# Altium integrated library Holtek Semiconductor 8-Bit OTP MCU.IntLib: 195 symbols (part 6 of 7)
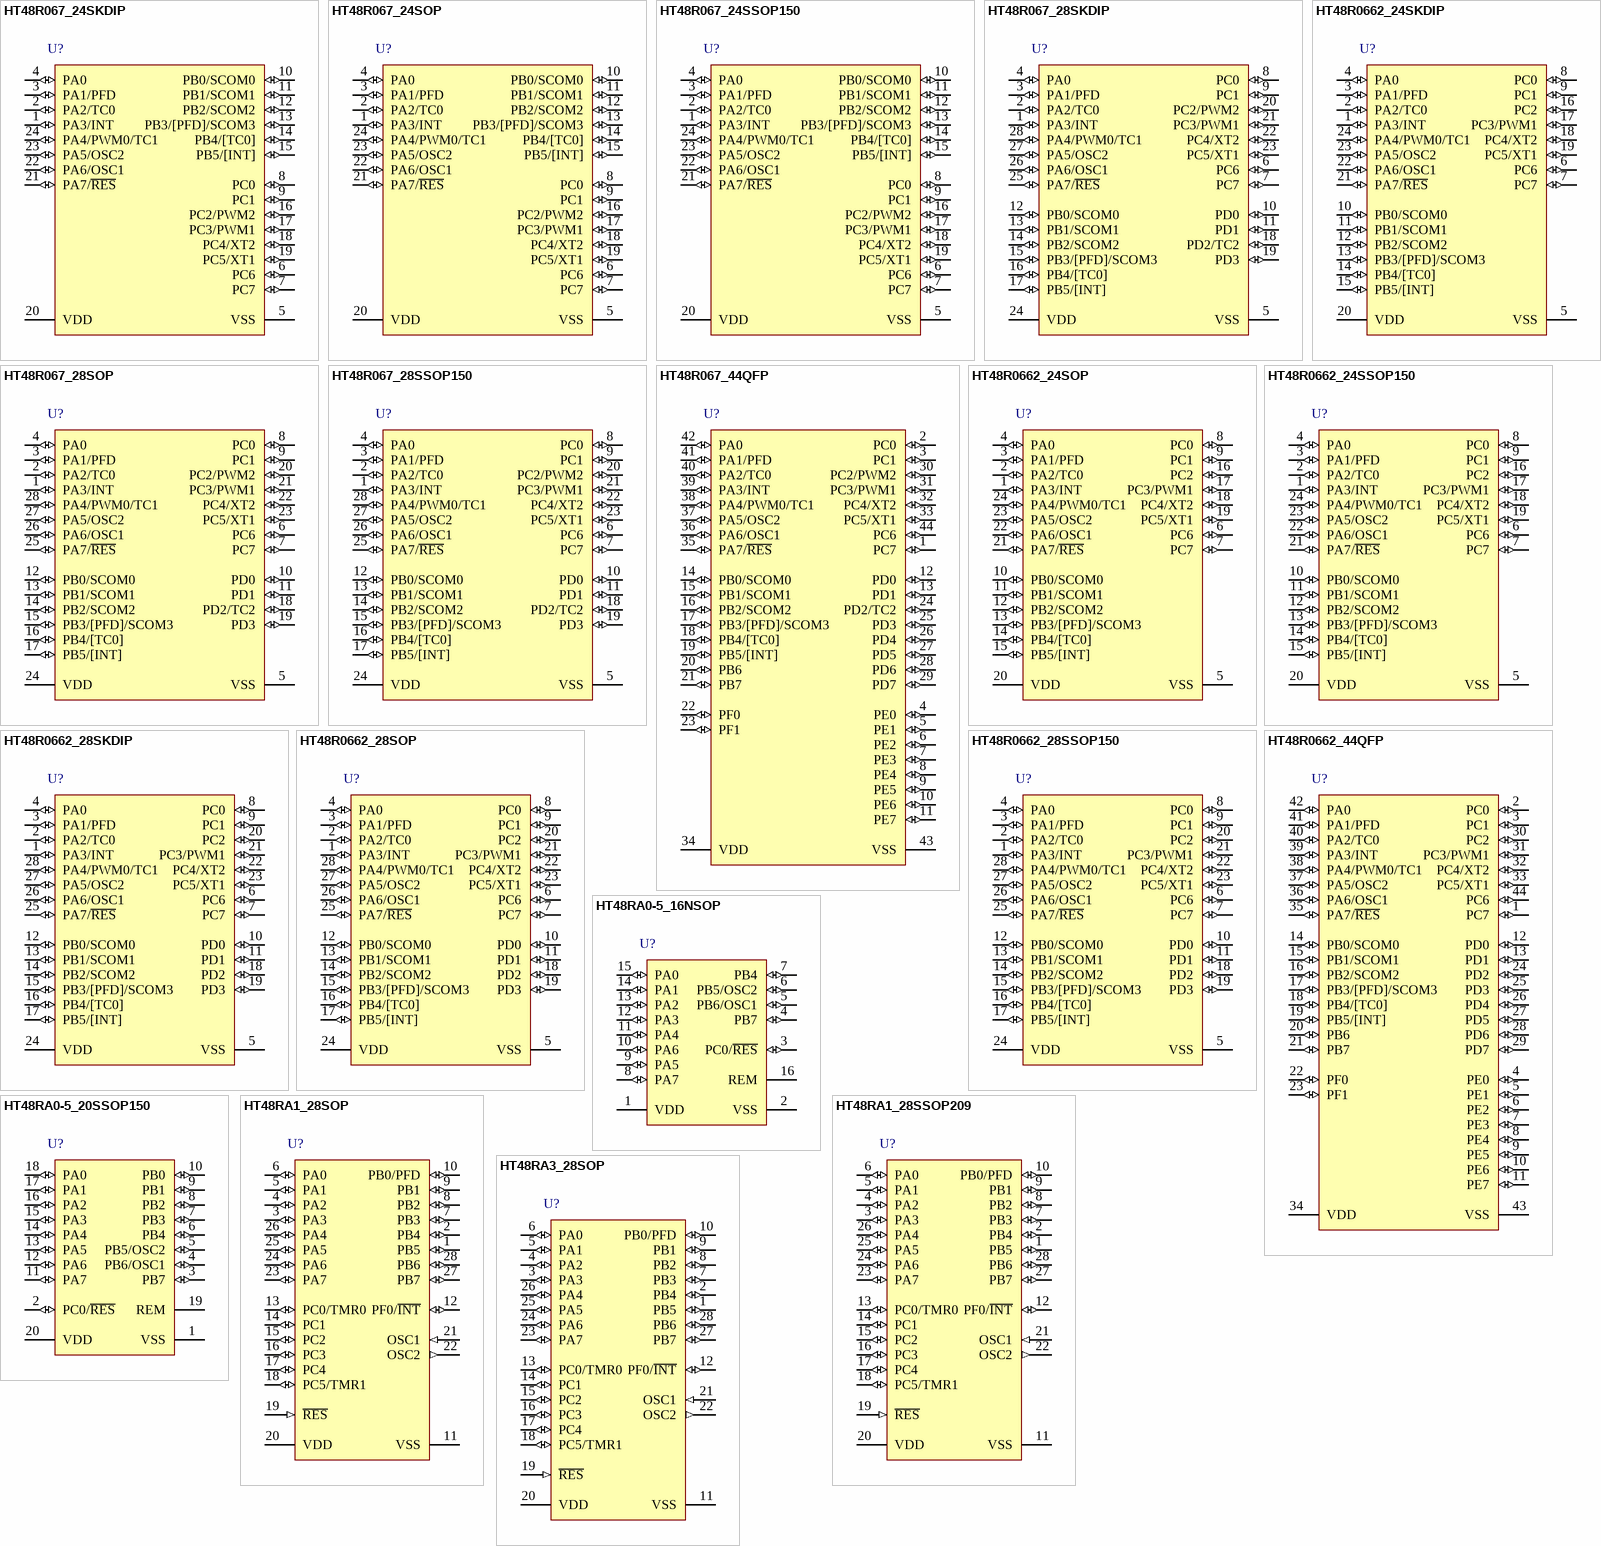
[diagram p17: symbols HT48R067_24SKDIP to HT48RA3_28SOP]

## HT48R067_28SSOP150
designator U?
General Purpose MCU, Enhanced I/O Type MCU, 2.2V-5.5V, 32kHz-12MHz, 8Kx16 Program Memory, 384x8 Data Memory, 42 I/O, 8-bitx3 PWM, 28-pin SSOP; I/O: 42; DatasheetVersion: rev1.3, Jun-2010; PackageVersion: 25/05/2010; PackageReference: 28SSOP150; PackageDescription: 28-Pin Shrink Small Outline Package, 150mil Width, 0.64 mm Pitch; Series: Enhanced I/O Type MCU; Operating Voltage: 2.2V-5.5V; Program Memory: 8Kx16; Data Memory: 384x8; ComponentLink1Description: Manufacturer URL; ComponentLink1URL: http://www.holtek.com/; ComponentLink2Description: Datasheet; ComponentLink2URL: http://www.holtek.com.cn/pdf/uc/sim48R06xv130.pdf; ComponentLink3Description: Package Specification; ComponentLink3URL: http://www.holtek.com/english/literature/package.pdf
footprint 28SSOP150_N (SOP, 28-Leads, Body 9.9x3.9mm, Pitch 0.635mm, IPC Medium Density)
footprint 28SSOP150_L (SOP, 28-Leads, Body 9.9x3.9mm, Pitch 0.635mm, IPC High Density)
footprint 28SSOP150_M (SOP, 28-Leads, Body 9.9x3.9mm, Pitch 0.635mm, IPC Low Density)
pins: 1 PA3/INT (io), 2 PA2/TC0 (io), 3 PA1/PFD (io), 4 PA0 (io), 5 VSS (power), 6 PC6 (io), 7 PC7 (io), 8 PC0 (io), 9 PC1 (io), 10 PD0 (io), 11 PD1 (io), 12 PB0/SCOM0 (io), 13 PB1/SCOM1 (io), 14 PB2/SCOM2 (io), 15 PB3/[PFD]/SCOM3 (io), 16 PB4/[TC0] (io), 17 PB5/[INT] (io), 18 PD2/TC2 (io), 19 PD3 (io), 20 PC2/PWM2 (io), 21 PC3/PWM1 (io), 22 PC4/XT2 (io), 23 PC5/XT1 (io), 24 VDD (power), 25 PA7/~{RES} (io), 26 PA6/OSC1 (io), 27 PA5/OSC2 (io), 28 PA4/PWM0/TC1 (io)

## HT48R067_44QFP
designator U?
General Purpose MCU, Enhanced I/O Type MCU, 2.2V-5.5V, 32kHz-12MHz, 8Kx16 Program Memory, 384x8 Data Memory, 42 I/O, 8-bitx3 PWM, 44-pin QFP; I/O: 42; DatasheetVersion: rev1.3, Jun-2010; PackageVersion: 25/05/2010; PackageReference: 44QFP; PackageDescription: 44-Pin Quad Flat Pack, 10 x 10 mm Body, 0.8 mm Pitch; Series: Enhanced I/O Type MCU; Operating Voltage: 2.2V-5.5V; Program Memory: 8Kx16; Data Memory: 384x8; Code_IPC: QFP80P1320X1320-44; ComponentLink1Description: Manufacturer URL; ComponentLink1URL: http://www.holtek.com/; ComponentLink2Description: Datasheet; ComponentLink2URL: http://www.holtek.com.cn/pdf/uc/sim48R06xv130.pdf; ComponentLink3Description: Package Specification; ComponentLink3URL: http://www.holtek.com/english/literature/package.pdf
footprint 44QFP_N (QFP, 44-Leads, Body 10x10mm, Pitch 0.8mm, IPC Medium Density)
footprint 44QFP_L (QFP, 44-Leads, Body 10x10mm, Pitch 0.8mm, IPC High Density)
footprint 44QFP_M (QFP, 44-Leads, Body 10x10mm, Pitch 0.8mm, IPC Low Density)
pins: 1 PC7 (io), 2 PC0 (io), 3 PC1 (io), 4 PE0 (io), 5 PE1 (io), 6 PE2 (io), 7 PE3 (io), 8 PE4 (io), 9 PE5 (io), 10 PE6 (io), 11 PE7 (io), 12 PD0 (io), 13 PD1 (io), 14 PB0/SCOM0 (io), 15 PB1/SCOM1 (io), 16 PB2/SCOM2 (io), 17 PB3/[PFD]/SCOM3 (io), 18 PB4/[TC0] (io), 19 PB5/[INT] (io), 20 PB6 (io), 21 PB7 (io), 22 PF0 (io), 23 PF1 (io), 24 PD2/TC2 (io), 25 PD3 (io), 26 PD4 (io), 27 PD5 (io), 28 PD6 (io), 29 PD7 (io), 30 PC2/PWM2 (io), 31 PC3/PWM1 (io), 32 PC4/XT2 (io), 33 PC5/XT1 (io), 34 VDD (power), 35 PA7/~{RES} (io), 36 PA6/OSC1 (io), 37 PA5/OSC2 (io), 38 PA4/PWM0/TC1 (io), 39 PA3/INT (io), 40 PA2/TC0 (io), 41 PA1/PFD (io), 42 PA0 (io), 43 VSS (power), 44 PC6 (io)

## HT48R0662_24SKDIP
designator U?
General Purpose MCU, Enhanced I/O Type MCU, 2.2V-5.5V, 32kHz-12MHz, 4Kx15 Program Memory, 224x8 Data Memory, 42 I/O, 2 x 8-bit Timer, 24-pin SKDIP; I/O: 42; DatasheetVersion: rev1.3, Jun-2010; PackageVersion: 25/05/2010; PackageReference: 24SKDIP; PackageDescription: 24-Pin, Skinny Dual In-line Package, 300mil Width, Pitch 2.54 mm, Full Lead (MS-001D); Series: Enhanced I/O Type MCU; Operating Voltage: 2.2V-5.5V; Program Memory: 4Kx15; Data Memory: 224x8; Code_JEDEC: MS-001; ComponentLink1Description: Manufacturer URL; ComponentLink1URL: http://www.holtek.com/; ComponentLink2Description: Datasheet; ComponentLink2URL: http://www.holtek.com.cn/pdf/uc/sim48R06xv130.pdf; ComponentLink3Description: Package Specification; ComponentLink3URL: http://www.holtek.com/english/literature/package.pdf
footprint 24SKDIP (DIP, 24-Leads, Row Spacing 7.62mm, Pitch 2.54mm, Body 31.9x6.6mm)
pins: 1 PA3/INT (io), 2 PA2/TC0 (io), 3 PA1/PFD (io), 4 PA0 (io), 5 VSS (power), 6 PC6 (io), 7 PC7 (io), 8 PC0 (io), 9 PC1 (io), 10 PB0/SCOM0 (io), 11 PB1/SCOM1 (io), 12 PB2/SCOM2 (io), 13 PB3/[PFD]/SCOM3 (io), 14 PB4/[TC0] (io), 15 PB5/[INT] (io), 16 PC2 (io), 17 PC3/PWM1 (io), 18 PC4/XT2 (io), 19 PC5/XT1 (io), 20 VDD (power), 21 PA7/~{RES} (io), 22 PA6/OSC1 (io), 23 PA5/OSC2 (io), 24 PA4/PWM0/TC1 (io)

## HT48R0662_24SOP
designator U?
General Purpose MCU, Enhanced I/O Type MCU, 2.2V-5.5V, 32kHz-12MHz, 4Kx15 Program Memory, 224x8 Data Memory, 42 I/O, 8-bitx2 PWM, 24-pin SOP; I/O: 42; DatasheetVersion: rev1.3, Jun-2010; PackageVersion: 25/05/2010; PackageReference: 24SOP; PackageDescription: 24-Pin Small Outline Package, 300mil Wide, 1.27 mm Pitch; Series: Enhanced I/O Type MCU; Operating Voltage: 2.2V-5.5V; Program Memory: 4Kx15; Data Memory: 224x8; Code_JEDEC: MS-013; ComponentLink1Description: Manufacturer URL; ComponentLink1URL: http://www.holtek.com/; ComponentLink2Description: Datasheet; ComponentLink2URL: http://www.holtek.com.cn/pdf/uc/sim48R06xv130.pdf; ComponentLink3Description: Package Specification; ComponentLink3URL: http://www.holtek.com/english/literature/package.pdf
footprint 24SOP_N (SOIC, 24-Leads, Body 15.4x7.1mm, Pitch 1.27mm, IPC Medium Density)
footprint 24SOP_L (SOIC, 24-Leads, Body 15.4x7.1mm, Pitch 1.27mm, IPC High Density)
footprint 24SOP_M (SOIC, 24-Leads, Body 15.4x7.1mm, Pitch 1.27mm, IPC Low Density)
pins: 1 PA3/INT (io), 2 PA2/TC0 (io), 3 PA1/PFD (io), 4 PA0 (io), 5 VSS (power), 6 PC6 (io), 7 PC7 (io), 8 PC0 (io), 9 PC1 (io), 10 PB0/SCOM0 (io), 11 PB1/SCOM1 (io), 12 PB2/SCOM2 (io), 13 PB3/[PFD]/SCOM3 (io), 14 PB4/[TC0] (io), 15 PB5/[INT] (io), 16 PC2 (io), 17 PC3/PWM1 (io), 18 PC4/XT2 (io), 19 PC5/XT1 (io), 20 VDD (power), 21 PA7/~{RES} (io), 22 PA6/OSC1 (io), 23 PA5/OSC2 (io), 24 PA4/PWM0/TC1 (io)

## HT48R0662_24SSOP150
designator U?
General Purpose MCU, Enhanced I/O Type MCU, 2.2V-5.5V, 32kHz-12MHz, 4Kx15 Program Memory, 224x8 Data Memory, 42 I/O, 8-bitx2 PWM, 24-pin SSOP; I/O: 42; DatasheetVersion: rev1.3, Jun-2010; PackageVersion: 25/05/2010; PackageReference: 24SSOP150; PackageDescription: 24-Pin Shrink Small Outline Package, 150mil Width, 0.64 mm Pitch; Series: Enhanced I/O Type MCU; Operating Voltage: 2.2V-5.5V; Program Memory: 4Kx15; Data Memory: 224x8; ComponentLink1Description: Manufacturer URL; ComponentLink1URL: http://www.holtek.com/; ComponentLink2Description: Datasheet; ComponentLink2URL: http://www.holtek.com.cn/pdf/uc/sim48R06xv130.pdf; ComponentLink3Description: Package Specification; ComponentLink3URL: http://www.holtek.com/english/literature/package.pdf
footprint 24SSOP150_N (SOP, 24-Leads, Body 8.7x3.9mm, Pitch 0.635mm, IPC Medium Density)
footprint 24SSOP150_L (SOP, 24-Leads, Body 8.7x3.9mm, Pitch 0.635mm, IPC High Density)
footprint 24SSOP150_M (SOP, 24-Leads, Body 8.7x3.9mm, Pitch 0.635mm, IPC Low Density)
pins: 1 PA3/INT (io), 2 PA2/TC0 (io), 3 PA1/PFD (io), 4 PA0 (io), 5 VSS (power), 6 PC6 (io), 7 PC7 (io), 8 PC0 (io), 9 PC1 (io), 10 PB0/SCOM0 (io), 11 PB1/SCOM1 (io), 12 PB2/SCOM2 (io), 13 PB3/[PFD]/SCOM3 (io), 14 PB4/[TC0] (io), 15 PB5/[INT] (io), 16 PC2 (io), 17 PC3/PWM1 (io), 18 PC4/XT2 (io), 19 PC5/XT1 (io), 20 VDD (power), 21 PA7/~{RES} (io), 22 PA6/OSC1 (io), 23 PA5/OSC2 (io), 24 PA4/PWM0/TC1 (io)

## HT48R0662_28SKDIP
designator U?
General Purpose MCU, Enhanced I/O Type MCU, 2.2V-5.5V, 32kHz-12MHz, 4Kx15 Program Memory, 224x8 Data Memory, 42 I/O, 8-bitx2 PWM, 28-pin SKDIP; I/O: 42; DatasheetVersion: rev1.3, Jun-2010; PackageVersion: 25/05/2010; PackageReference: 28SKDIP; PackageDescription: 28-Pin, Skinny Dual In-line Package, 300mil Width, Pitch 2.54 mm; Series: Enhanced I/O Type MCU; Operating Voltage: 2.2V-5.5V; Program Memory: 4Kx15; Data Memory: 224x8; ComponentLink1Description: Manufacturer URL; ComponentLink1URL: http://www.holtek.com/; ComponentLink2Description: Datasheet; ComponentLink2URL: http://www.holtek.com.cn/pdf/uc/sim48R06xv130.pdf; ComponentLink3Description: Package Specification; ComponentLink3URL: http://www.holtek.com/english/literature/package.pdf
footprint 28SKDIP (DIP, 28-Leads, Row Spacing 7.62mm, Pitch 2.54mm, Body 35.2x7.3mm)
pins: 1 PA3/INT (io), 2 PA2/TC0 (io), 3 PA1/PFD (io), 4 PA0 (io), 5 VSS (power), 6 PC6 (io), 7 PC7 (io), 8 PC0 (io), 9 PC1 (io), 10 PD0 (io), 11 PD1 (io), 12 PB0/SCOM0 (io), 13 PB1/SCOM1 (io), 14 PB2/SCOM2 (io), 15 PB3/[PFD]/SCOM3 (io), 16 PB4/[TC0] (io), 17 PB5/[INT] (io), 18 PD2 (io), 19 PD3 (io), 20 PC2 (io), 21 PC3/PWM1 (io), 22 PC4/XT2 (io), 23 PC5/XT1 (io), 24 VDD (power), 25 PA7/~{RES} (io), 26 PA6/OSC1 (io), 27 PA5/OSC2 (io), 28 PA4/PWM0/TC1 (io)

## HT48R0662_28SOP
designator U?
General Purpose MCU, Enhanced I/O Type MCU, 2.2V-5.5V, 32kHz-12MHz, 4Kx15 Program Memory, 224x8 Data Memory, 42 I/O, 8-bitx2 PWM, 28-pin SOP; I/O: 42; DatasheetVersion: rev1.3, Jun-2010; PackageVersion: 25/05/2010; PackageReference: 28SOP; PackageDescription: 28-Pin Small Outline Package, 300mil Wide, 1.27 mm Pitch; Series: Enhanced I/O Type MCU; Operating Voltage: 2.2V-5.5V; Program Memory: 4Kx15; Data Memory: 224x8; Code_JEDEC: MS-013; ComponentLink1Description: Manufacturer URL; ComponentLink1URL: http://www.holtek.com/; ComponentLink2Description: Datasheet; ComponentLink2URL: http://www.holtek.com.cn/pdf/uc/sim48R06xv130.pdf; ComponentLink3Description: Package Specification; ComponentLink3URL: http://www.holtek.com/english/literature/package.pdf
footprint 28SOP_N (SOIC, 28-Leads, Body 17.9x7.1mm, Pitch 1.27mm, IPC Medium Density)
footprint 28SOP_L (SOIC, 28-Leads, Body 17.9x7.1mm, Pitch 1.27mm, IPC High Density)
footprint 28SOP_M (SOIC, 28-Leads, Body 17.9x7.1mm, Pitch 1.27mm, IPC Low Density)
pins: 1 PA3/INT (io), 2 PA2/TC0 (io), 3 PA1/PFD (io), 4 PA0 (io), 5 VSS (power), 6 PC6 (io), 7 PC7 (io), 8 PC0 (io), 9 PC1 (io), 10 PD0 (io), 11 PD1 (io), 12 PB0/SCOM0 (io), 13 PB1/SCOM1 (io), 14 PB2/SCOM2 (io), 15 PB3/[PFD]/SCOM3 (io), 16 PB4/[TC0] (io), 17 PB5/[INT] (io), 18 PD2 (io), 19 PD3 (io), 20 PC2 (io), 21 PC3/PWM1 (io), 22 PC4/XT2 (io), 23 PC5/XT1 (io), 24 VDD (power), 25 PA7/~{RES} (io), 26 PA6/OSC1 (io), 27 PA5/OSC2 (io), 28 PA4/PWM0/TC1 (io)

## HT48R0662_28SSOP150
designator U?
General Purpose MCU, Enhanced I/O Type MCU, 2.2V-5.5V, 32kHz-12MHz, 4Kx15 Program Memory, 224x8 Data Memory, 42 I/O, 8-bitx2 PWM, 28-pin SSOP; I/O: 42; DatasheetVersion: rev1.3, Jun-2010; PackageVersion: 25/05/2010; PackageReference: 28SSOP150; PackageDescription: 28-Pin Shrink Small Outline Package, 150mil Width, 0.64 mm Pitch; Series: Enhanced I/O Type MCU; Operating Voltage: 2.2V-5.5V; Program Memory: 4Kx15; Data Memory: 224x8; ComponentLink1Description: Manufacturer URL; ComponentLink1URL: http://www.holtek.com/; ComponentLink2Description: Datasheet; ComponentLink2URL: http://www.holtek.com.cn/pdf/uc/sim48R06xv130.pdf; ComponentLink3Description: Package Specification; ComponentLink3URL: http://www.holtek.com/english/literature/package.pdf
footprint 28SSOP150_N (SOP, 28-Leads, Body 9.9x3.9mm, Pitch 0.635mm, IPC Medium Density)
footprint 28SSOP150_L (SOP, 28-Leads, Body 9.9x3.9mm, Pitch 0.635mm, IPC High Density)
footprint 28SSOP150_M (SOP, 28-Leads, Body 9.9x3.9mm, Pitch 0.635mm, IPC Low Density)
pins: 1 PA3/INT (io), 2 PA2/TC0 (io), 3 PA1/PFD (io), 4 PA0 (io), 5 VSS (power), 6 PC6 (io), 7 PC7 (io), 8 PC0 (io), 9 PC1 (io), 10 PD0 (io), 11 PD1 (io), 12 PB0/SCOM0 (io), 13 PB1/SCOM1 (io), 14 PB2/SCOM2 (io), 15 PB3/[PFD]/SCOM3 (io), 16 PB4/[TC0] (io), 17 PB5/[INT] (io), 18 PD2 (io), 19 PD3 (io), 20 PC2 (io), 21 PC3/PWM1 (io), 22 PC4/XT2 (io), 23 PC5/XT1 (io), 24 VDD (power), 25 PA7/~{RES} (io), 26 PA6/OSC1 (io), 27 PA5/OSC2 (io), 28 PA4/PWM0/TC1 (io)

## HT48R0662_44QFP
designator U?
General Purpose MCU, Enhanced I/O Type MCU, 2.2V-5.5V, 32kHz-12MHz, 4Kx15 Program Memory, 224x8 Data Memory, 42 I/O, 8-bitx2 PWM, 44-pin QFP; I/O: 42; DatasheetVersion: rev1.3, Jun-2010; PackageVersion: 25/05/2010; PackageReference: 44QFP; PackageDescription: 44-Pin Quad Flat Pack, 10 x 10 mm Body, 0.8 mm Pitch; Series: Enhanced I/O Type MCU; Operating Voltage: 2.2V-5.5V; Program Memory: 4Kx15; Data Memory: 224x8; Code_IPC: QFP80P1320X1320-44; ComponentLink1Description: Manufacturer URL; ComponentLink1URL: http://www.holtek.com/; ComponentLink2Description: Datasheet; ComponentLink2URL: http://www.holtek.com.cn/pdf/uc/sim48R06xv130.pdf; ComponentLink3Description: Package Specification; ComponentLink3URL: http://www.holtek.com/english/literature/package.pdf
footprint 44QFP_N (QFP, 44-Leads, Body 10x10mm, Pitch 0.8mm, IPC Medium Density)
footprint 44QFP_L (QFP, 44-Leads, Body 10x10mm, Pitch 0.8mm, IPC High Density)
footprint 44QFP_M (QFP, 44-Leads, Body 10x10mm, Pitch 0.8mm, IPC Low Density)
pins: 1 PC7 (io), 2 PC0 (io), 3 PC1 (io), 4 PE0 (io), 5 PE1 (io), 6 PE2 (io), 7 PE3 (io), 8 PE4 (io), 9 PE5 (io), 10 PE6 (io), 11 PE7 (io), 12 PD0 (io), 13 PD1 (io), 14 PB0/SCOM0 (io), 15 PB1/SCOM1 (io), 16 PB2/SCOM2 (io), 17 PB3/[PFD]/SCOM3 (io), 18 PB4/[TC0] (io), 19 PB5/[INT] (io), 20 PB6 (io), 21 PB7 (io), 22 PF0 (io), 23 PF1 (io), 24 PD2 (io), 25 PD3 (io), 26 PD4 (io), 27 PD5 (io), 28 PD6 (io), 29 PD7 (io), 30 PC2 (io), 31 PC3/PWM1 (io), 32 PC4/XT2 (io), 33 PC5/XT1 (io), 34 VDD (power), 35 PA7/~{RES} (io), 36 PA6/OSC1 (io), 37 PA5/OSC2 (io), 38 PA4/PWM0/TC1 (io), 39 PA3/INT (io), 40 PA2/TC0 (io), 41 PA1/PFD (io), 42 PA0 (io), 43 VSS (power), 44 PC6 (io)

## HT48RA0-5_16NSOP
designator U?
IR Remote MCU, Remote Type MCU, 1.8V-3.6V, 400kHz-4095kHz, 1Kx14 Program Memory, 32x8 Data Memory, 17 I/O, 16-pin NSOP; I/O: 17; DatasheetVersion: rev1.3, Oct-2010; PackageVersion: 25/05/2010; PackageReference: 16NSOP; PackageDescription: 16-Pin Narrow Small Outline Package, 150mil Wide, 1.27 mm Pitch; Series: Remote Type MCU; Operating Voltage: 1.8V-3.6V; Program Memory: 1Kx14; Data Memory: 32x8; ComponentLink1Description: Manufacturer URL; ComponentLink1URL: http://www.holtek.com/; ComponentLink2Description: Datasheet; ComponentLink2URL: http://www.holtek.com/pdf/uc/48xa0_5v130.pdf; ComponentLink3Description: Package Specification; ComponentLink3URL: http://www.holtek.com/english/literature/package.pdf
footprint 16NSOP_N (SOIC, 16-Leads, Body 10.01x3.9mm, Pitch 1.27mm, IPC Medium Density)
footprint 16NSOP_L (SOIC, 16-Leads, Body 10.01x3.9mm, Pitch 1.27mm, IPC High Density)
footprint 16NSOP_M (SOIC, 16-Leads, Body 10.01x3.9mm, Pitch 1.27mm, IPC Low Density)
pins: 1 VDD (power), 2 VSS (power), 3 PC0/~{RES} (io), 4 PB7 (io), 5 PB6/OSC1 (io), 6 PB5/OSC2 (io), 7 PB4 (io), 8 PA7 (io), 9 PA5 (io), 10 PA6 (io), 11 PA4 (io), 12 PA3 (io), 13 PA2 (io), 14 PA1 (io), 15 PA0 (io), 16 REM (oc)

## HT48RA0-5_20SSOP150
designator U?
IR Remote MCU, Remote Type MCU, 1.8V-3.6V, 400kHz-4095kHz, 1Kx14 Program Memory, 32x8 Data Memory, 17 I/O, 20-pin SSOP; I/O: 17; DatasheetVersion: rev1.3, Oct-2010; PackageVersion: 25/05/2010; PackageReference: 20SSOP150; PackageDescription: 20-Pin Shrink Small Outline Package, 150mil Width, 0.64 mm Pitch; Series: Remote Type MCU; Operating Voltage: 1.8V-3.6V; Program Memory: 1Kx14; Data Memory: 32x8; Code_IPC: SOP635P600-20; ComponentLink1Description: Manufacturer URL; ComponentLink1URL: http://www.holtek.com/; ComponentLink2Description: Datasheet; ComponentLink2URL: http://www.holtek.com/pdf/uc/48xa0_5v130.pdf; ComponentLink3Description: Package Specification; ComponentLink3URL: http://www.holtek.com/english/literature/package.pdf
footprint 20SSOP150_N (SOP, 20-Leads, Body 8.7x3.9mm, Pitch 0.635mm, IPC Medium Density)
footprint 20SSOP150_L (SOP, 20-Leads, Body 8.7x3.9mm, Pitch 0.635mm, IPC High Density)
footprint 20SSOP150_M (SOP, 20-Leads, Body 8.7x3.9mm, Pitch 0.635mm, IPC Low Density)
pins: 1 VSS (power), 2 PC0/~{RES} (io), 3 PB7 (io), 4 PB6/OSC1 (io), 5 PB5/OSC2 (io), 6 PB4 (io), 7 PB3 (io), 8 PB2 (io), 9 PB1 (io), 10 PB0 (io), 11 PA7 (io), 12 PA6 (io), 13 PA5 (io), 14 PA4 (io), 15 PA3 (io), 16 PA2 (io), 17 PA1 (io), 18 PA0 (io), 19 REM (oc), 20 VDD (power)

## HT48RA1_28SOP
designator U?
IR Remote MCU, Remote Type MCU, 1.8V-3.6V, 400kHz-8MHz, 8Kx16 Program Memory, 224x8 Data Memory, 23 I/O, 1 x 8-bit Timer, 1 x 16-bit Timer, 28-pin SOP; I/O: 23; DatasheetVersion: rev1.4, May-2009; PackageVersion: 25/05/2010; PackageReference: 28SOP; PackageDescription: 28-Pin Small Outline Package, 300mil Wide, 1.27 mm Pitch; Series: Remote Type MCU; Operating Voltage: 1.8V-3.6V; Program Memory: 8Kx16; Data Memory: 224x8; Code_JEDEC: MS-013; ComponentLink1Description: Manufacturer URL; ComponentLink1URL: http://www.holtek.com/; ComponentLink2Description: Datasheet; ComponentLink2URL: http://www.holtek.com.cn/pdf/uc/sim48xa1v140.pdf; ComponentLink3Description: Package Specification; ComponentLink3URL: http://www.holtek.com/english/literature/package.pdf
footprint 28SOP_N (SOIC, 28-Leads, Body 17.9x7.1mm, Pitch 1.27mm, IPC Medium Density)
footprint 28SOP_L (SOIC, 28-Leads, Body 17.9x7.1mm, Pitch 1.27mm, IPC High Density)
footprint 28SOP_M (SOIC, 28-Leads, Body 17.9x7.1mm, Pitch 1.27mm, IPC Low Density)
pins: 1 PB5 (io), 2 PB4 (io), 3 PA3 (io), 4 PA2 (io), 5 PA1 (io), 6 PA0 (io), 7 PB3 (io), 8 PB2 (io), 9 PB1 (io), 10 PB0/PFD (io), 11 VSS (power), 12 PF0/~{INT} (io), 13 PC0/TMR0 (io), 14 PC1 (io), 15 PC2 (io), 16 PC3 (io), 17 PC4 (io), 18 PC5/TMR1 (io), 19 ~{RES} (in), 20 VDD (power), 21 OSC1 (in), 22 OSC2 (out), 23 PA7 (io), 24 PA6 (io), 25 PA5 (io), 26 PA4 (io), 27 PB7 (io), 28 PB6 (io)

## HT48RA1_28SSOP209
designator U?
IR Remote MCU, Remote Type MCU, 1.8V-3.6V, 400kHz-8MHz, 8Kx16 Program Memory, 224x8 Data Memory, 23 I/O, 1 x 8-bit Timer, 1 x 16-bit Timer, 28-pin SSOP(209mil); I/O: 23; DatasheetVersion: rev1.4, May-2009; PackageVersion: 25/05/2010; PackageReference: 28SSOP209; PackageDescription: 28-Pin Shrink Small Outline Package, 209mil Wide, 0.65 mm Pitch; Series: Remote Type MCU; Operating Voltage: 1.8V-3.6V; Program Memory: 8Kx16; Data Memory: 224x8; Code_JEDEC: MO-150; ComponentLink1Description: Manufacturer URL; ComponentLink1URL: http://www.holtek.com/; ComponentLink2Description: Datasheet; ComponentLink2URL: http://www.holtek.com.cn/pdf/uc/sim48xa1v140.pdf; ComponentLink3Description: Package Specification; ComponentLink3URL: http://www.holtek.com/english/literature/package.pdf
footprint 28SSOP209_N (SOP, 28-Leads, Body 10.2x5.3mm, Pitch 0.65mm, IPC Medium Density)
footprint 28SSOP209_L (SOP, 28-Leads, Body 10.2x5.3mm, Pitch 0.65mm, IPC High Density)
footprint 28SSOP209_M (SOP, 28-Leads, Body 10.2x5.3mm, Pitch 0.65mm, IPC Low Density)
pins: 1 PB5 (io), 2 PB4 (io), 3 PA3 (io), 4 PA2 (io), 5 PA1 (io), 6 PA0 (io), 7 PB3 (io), 8 PB2 (io), 9 PB1 (io), 10 PB0/PFD (io), 11 VSS (power), 12 PF0/~{INT} (io), 13 PC0/TMR0 (io), 14 PC1 (io), 15 PC2 (io), 16 PC3 (io), 17 PC4 (io), 18 PC5/TMR1 (io), 19 ~{RES} (in), 20 VDD (power), 21 OSC1 (in), 22 OSC2 (out), 23 PA7 (io), 24 PA6 (io), 25 PA5 (io), 26 PA4 (io), 27 PB7 (io), 28 PB6 (io)

## HT48RA3_28SOP
designator U?
IR Remote MCU, Remote Type MCU, 1.8V-3.6V, 400kHz-8MHz, 24Kx16 Program Memory, 224x8 Data Memory, 23 I/O, 1 x 8-bit Timer, 1 x 16-bit Timer, 28-pin SOP; I/O: 23; DatasheetVersion: rev1.5, Jun-2009; PackageVersion: 25/05/2010; PackageReference: 28SOP; PackageDescription: 28-Pin Small Outline Package, 300mil Wide, 1.27 mm Pitch; Series: Remote Type MCU; Operating Voltage: 1.8V-3.6V; Program Memory: 24Kx16; Data Memory: 224x8; Code_JEDEC: MS-013; ComponentLink1Description: Manufacturer URL; ComponentLink1URL: http://www.holtek.com/; ComponentLink2Description: Datasheet; ComponentLink2URL: http://www.holtek.com.cn/pdf/uc/sim48xa3v150.pdf; ComponentLink3Description: Package Specification; ComponentLink3URL: http://www.holtek.com/english/literature/package.pdf
footprint 28SOP_N (SOIC, 28-Leads, Body 17.9x7.1mm, Pitch 1.27mm, IPC Medium Density)
footprint 28SOP_L (SOIC, 28-Leads, Body 17.9x7.1mm, Pitch 1.27mm, IPC High Density)
footprint 28SOP_M (SOIC, 28-Leads, Body 17.9x7.1mm, Pitch 1.27mm, IPC Low Density)
pins: 1 PB5 (io), 2 PB4 (io), 3 PA3 (io), 4 PA2 (io), 5 PA1 (io), 6 PA0 (io), 7 PB3 (io), 8 PB2 (io), 9 PB1 (io), 10 PB0/PFD (io), 11 VSS (power), 12 PF0/~{INT} (io), 13 PC0/TMR0 (io), 14 PC1 (io), 15 PC2 (io), 16 PC3 (io), 17 PC4 (io), 18 PC5/TMR1 (io), 19 ~{RES} (in), 20 VDD (power), 21 OSC1 (in), 22 OSC2 (out), 23 PA7 (io), 24 PA6 (io), 25 PA5 (io), 26 PA4 (io), 27 PB7 (io), 28 PB6 (io)

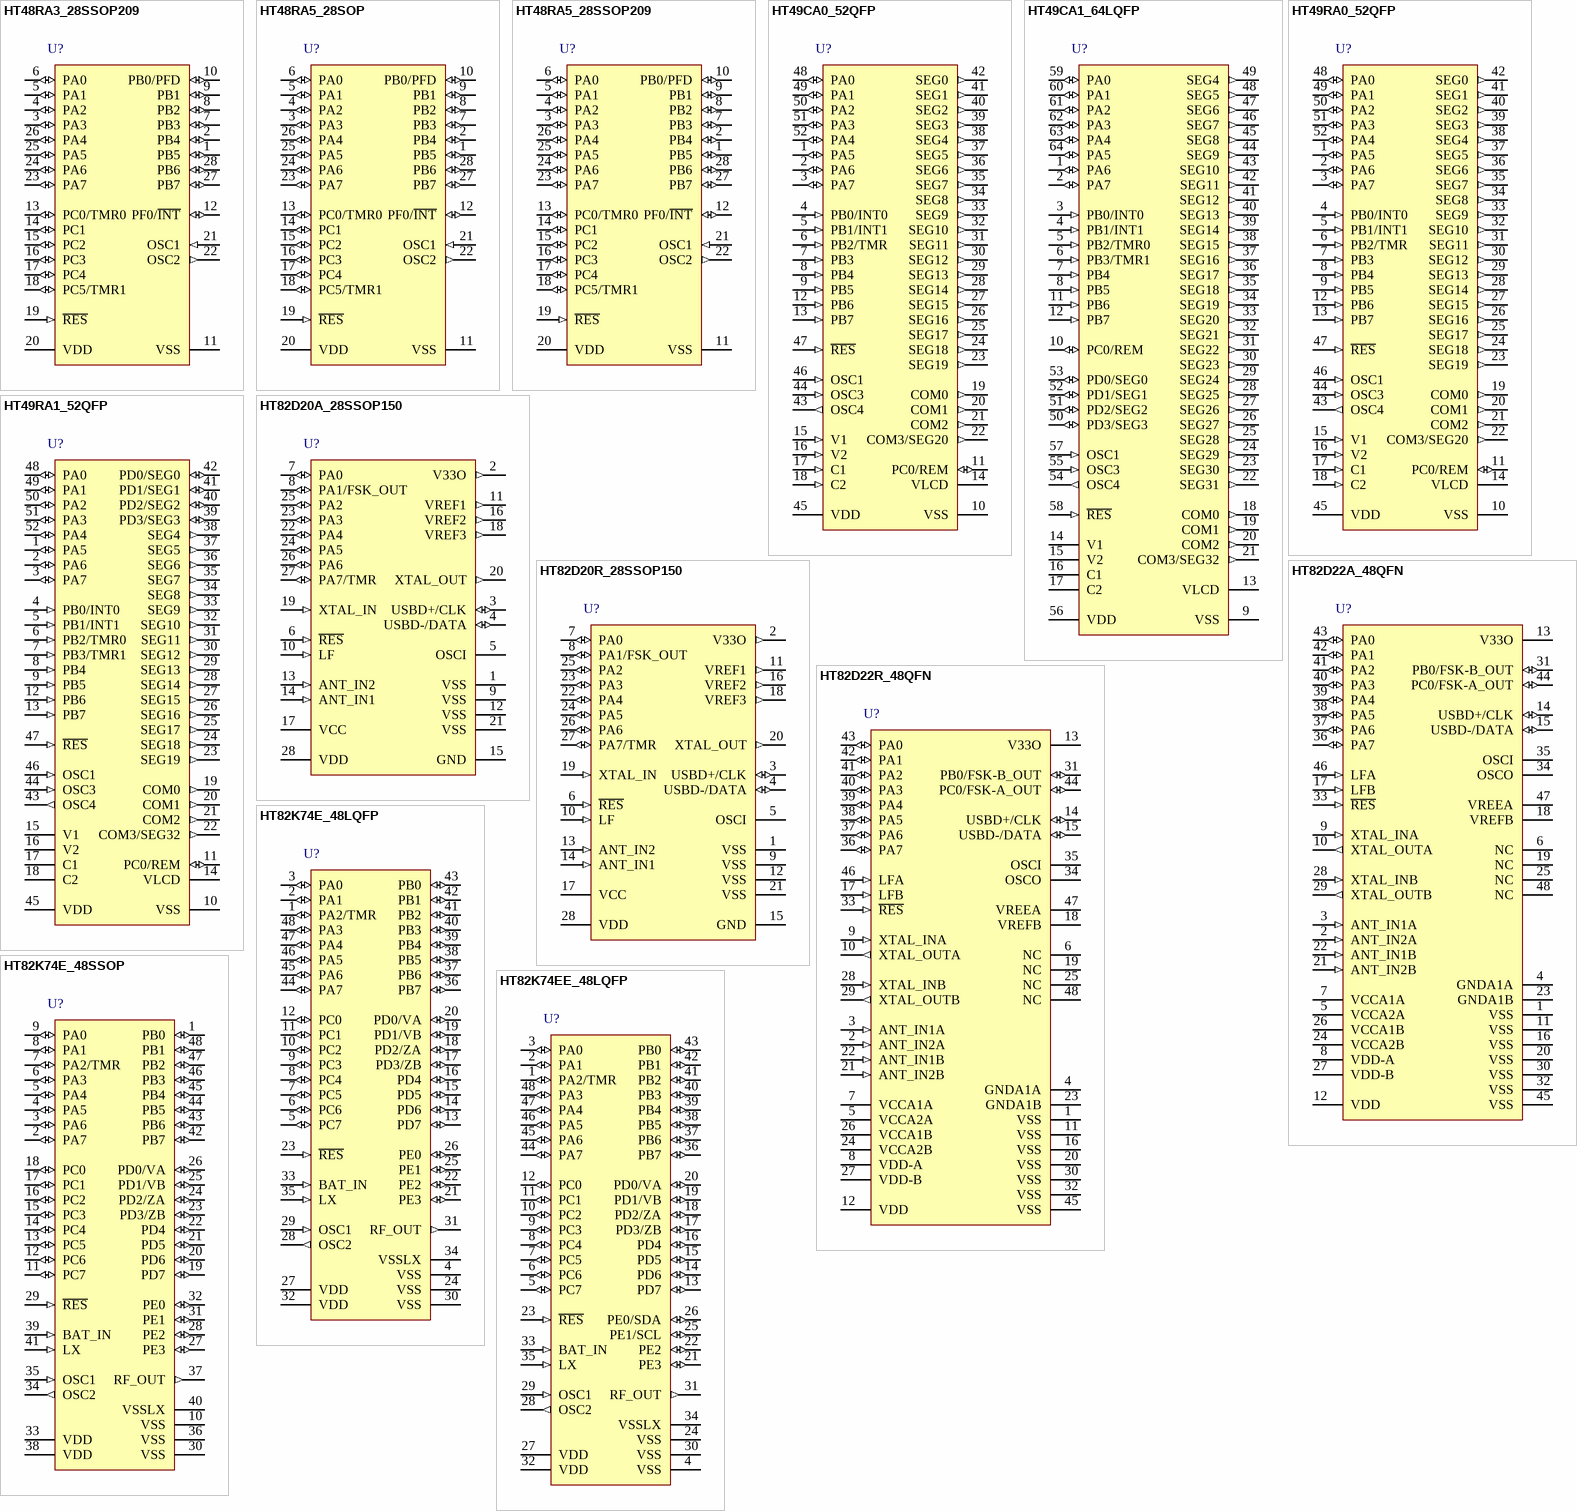
[diagram p11: symbols HT48RA3_28SSOP209 to HT82K74EE_48LQFP]

## HT48RA3_28SSOP209
designator U?
IR Remote MCU, Remote Type MCU, 1.8V-3.6V, 400kHz-8MHz, 24Kx16 Program Memory, 224x8 Data Memory, 23 I/O, 1 x 8-bit Timer, 1 x 16-bit Timer, 28-pin SSOP(209mil); I/O: 23; DatasheetVersion: rev1.5, Jun-2009; PackageVersion: 25/05/2010; PackageReference: 28SSOP209; PackageDescription: 28-Pin Shrink Small Outline Package, 209mil Wide, 0.65 mm Pitch; Series: Remote Type MCU; Operating Voltage: 1.8V-3.6V; Program Memory: 24Kx16; Data Memory: 224x8; Code_JEDEC: MO-150; ComponentLink1Description: Manufacturer URL; ComponentLink1URL: http://www.holtek.com/; ComponentLink2Description: Datasheet; ComponentLink2URL: http://www.holtek.com.cn/pdf/uc/sim48xa3v150.pdf; ComponentLink3Description: Package Specification; ComponentLink3URL: http://www.holtek.com/english/literature/package.pdf
footprint 28SSOP209_N (SOP, 28-Leads, Body 10.2x5.3mm, Pitch 0.65mm, IPC Medium Density)
footprint 28SSOP209_L (SOP, 28-Leads, Body 10.2x5.3mm, Pitch 0.65mm, IPC High Density)
footprint 28SSOP209_M (SOP, 28-Leads, Body 10.2x5.3mm, Pitch 0.65mm, IPC Low Density)
pins: 1 PB5 (io), 2 PB4 (io), 3 PA3 (io), 4 PA2 (io), 5 PA1 (io), 6 PA0 (io), 7 PB3 (io), 8 PB2 (io), 9 PB1 (io), 10 PB0/PFD (io), 11 VSS (power), 12 PF0/~{INT} (io), 13 PC0/TMR0 (io), 14 PC1 (io), 15 PC2 (io), 16 PC3 (io), 17 PC4 (io), 18 PC5/TMR1 (io), 19 ~{RES} (in), 20 VDD (power), 21 OSC1 (in), 22 OSC2 (out), 23 PA7 (io), 24 PA6 (io), 25 PA5 (io), 26 PA4 (io), 27 PB7 (io), 28 PB6 (io)

## HT48RA5_28SOP
designator U?
IR Remote MCU, Remote Type MCU, 1.8V-3.6V, 400kHz-8MHz, 40Kx16 Program Memory, 224x8 Data Memory, 23 I/O, 1 x 8-bit Timer, 1 x 16-bit Timer, 28-pin SOP; I/O: 23; DatasheetVersion: rev1.4, May-2009; PackageVersion: 25/05/2010; PackageReference: 28SOP; PackageDescription: 28-Pin Small Outline Package, 300mil Wide, 1.27 mm Pitch; Series: Remote Type MCU; Operating Voltage: 1.8V-3.6V; Program Memory: 40Kx16; Data Memory: 224x8; Code_JEDEC: MS-013; ComponentLink1Description: Manufacturer URL; ComponentLink1URL: http://www.holtek.com/; ComponentLink2Description: Datasheet; ComponentLink2URL: http://www.holtek.com.cn/pdf/uc/sim48xa5v140.pdf; ComponentLink3Description: Package Specification; ComponentLink3URL: http://www.holtek.com/english/literature/package.pdf
footprint 28SOP_N (SOIC, 28-Leads, Body 17.9x7.1mm, Pitch 1.27mm, IPC Medium Density)
footprint 28SOP_L (SOIC, 28-Leads, Body 17.9x7.1mm, Pitch 1.27mm, IPC High Density)
footprint 28SOP_M (SOIC, 28-Leads, Body 17.9x7.1mm, Pitch 1.27mm, IPC Low Density)
pins: 1 PB5 (io), 2 PB4 (io), 3 PA3 (io), 4 PA2 (io), 5 PA1 (io), 6 PA0 (io), 7 PB3 (io), 8 PB2 (io), 9 PB1 (io), 10 PB0/PFD (io), 11 VSS (power), 12 PF0/~{INT} (io), 13 PC0/TMR0 (io), 14 PC1 (io), 15 PC2 (io), 16 PC3 (io), 17 PC4 (io), 18 PC5/TMR1 (io), 19 ~{RES} (in), 20 VDD (power), 21 OSC1 (in), 22 OSC2 (out), 23 PA7 (io), 24 PA6 (io), 25 PA5 (io), 26 PA4 (io), 27 PB7 (io), 28 PB6 (io)

## HT48RA5_28SSOP209
designator U?
IR Remote MCU, Remote Type MCU, 1.8V-3.6V, 400kHz-8MHz, 40Kx16 Program Memory, 224x8 Data Memory, 23 I/O, 1 x 8-bit Timer, 1 x 16-bit Timer, 28-pin SSOP(209mil); I/O: 23; DatasheetVersion: rev1.4, May-2009; PackageVersion: 25/05/2010; PackageReference: 28SSOP209; PackageDescription: 28-Pin Shrink Small Outline Package, 209mil Wide, 0.65 mm Pitch; Series: Remote Type MCU; Operating Voltage: 1.8V-3.6V; Program Memory: 40Kx16; Data Memory: 224x8; Code_JEDEC: MO-150; ComponentLink1Description: Manufacturer URL; ComponentLink1URL: http://www.holtek.com/; ComponentLink2Description: Datasheet; ComponentLink2URL: http://www.holtek.com.cn/pdf/uc/sim48xa5v140.pdf; ComponentLink3Description: Package Specification; ComponentLink3URL: http://www.holtek.com/english/literature/package.pdf
footprint 28SSOP209_N (SOP, 28-Leads, Body 10.2x5.3mm, Pitch 0.65mm, IPC Medium Density)
footprint 28SSOP209_L (SOP, 28-Leads, Body 10.2x5.3mm, Pitch 0.65mm, IPC High Density)
footprint 28SSOP209_M (SOP, 28-Leads, Body 10.2x5.3mm, Pitch 0.65mm, IPC Low Density)
pins: 1 PB5 (io), 2 PB4 (io), 3 PA3 (io), 4 PA2 (io), 5 PA1 (io), 6 PA0 (io), 7 PB3 (io), 8 PB2 (io), 9 PB1 (io), 10 PB0/PFD (io), 11 VSS (power), 12 PF0/~{INT} (io), 13 PC0/TMR0 (io), 14 PC1 (io), 15 PC2 (io), 16 PC3 (io), 17 PC4 (io), 18 PC5/TMR1 (io), 19 ~{RES} (in), 20 VDD (power), 21 OSC1 (in), 22 OSC2 (out), 23 PA7 (io), 24 PA6 (io), 25 PA5 (io), 26 PA4 (io), 27 PB7 (io), 28 PB6 (io)

## HT49CA0_52QFP
designator U?
IR Remote MCU, Remote Type MCU with LCD, 2.0V-3.6V, 4MHz, 2Kx14 Program Memory, 96x8 Data Memory, 8 I/O, 1 x 8-bit Timer, 52-pin QFP; I/O: 8; DatasheetVersion: rev1.4, Dec-2008; PackageVersion: 25/05/2010; PackageReference: 52QFP; PackageDescription: 52-Pin Quad Flat Pack, 14 x 14 mm Body, 1 mm Pitch; Series: Remote Type MCU with LCD; Operating Voltage: 2.0V-3.6V; Program Memory: 2Kx14; Data Memory: 96x8; ComponentLink1Description: Manufacturer URL; ComponentLink1URL: http://www.holtek.com/; ComponentLink2Description: Datasheet; ComponentLink2URL: http://www.holtek.com.cn/pdf/uc/49xa0v140.pdf; ComponentLink3Description: Package Specification; ComponentLink3URL: http://www.holtek.com/english/literature/package.pdf
footprint 52QFP_N (QFP, 52-Leads, Body 14x14mm, Pitch 1mm, IPC Medium Density)
footprint 52QFP_L (QFP, 52-Leads, Body 14x14mm, Pitch 1mm, IPC High Density)
footprint 52QFP_M (QFP, 52-Leads, Body 14x14mm, Pitch 1mm, IPC Low Density)
pins: 1 PA5 (io), 2 PA6 (io), 3 PA7 (io), 4 PB0/INT0 (in), 5 PB1/INT1 (in), 6 PB2/TMR (in), 7 PB3 (in), 8 PB4 (in), 9 PB5 (in), 10 VSS (power), 11 PC0/REM (io), 12 PB6 (in), 13 PB7 (in), 14 VLCD (power), 15 V1 (in), 16 V2 (in), 17 C1 (in), 18 C2 (in), 19 COM0 (out), 20 COM1 (out), 21 COM2 (out), 22 COM3/SEG20 (out), 23 SEG19 (out), 24 SEG18 (out), 25 SEG17 (out), 26 SEG16 (out), 27 SEG15 (out), 28 SEG14 (out), 29 SEG13 (out), 30 SEG12 (out), 31 SEG11 (out), 32 SEG10 (out), 33 SEG9 (out), 34 SEG8 (out), 35 SEG7 (out), 36 SEG6 (out), 37 SEG5 (out), 38 SEG4 (out), 39 SEG3 (out), 40 SEG2 (out), 41 SEG1 (out), 42 SEG0 (out), 43 OSC4 (out), 44 OSC3 (in), 45 VDD (power), 46 OSC1 (in), 47 ~{RES} (in), 48 PA0 (io), 49 PA1 (io), 50 PA2 (io), 51 PA3 (io), 52 PA4 (io)

## HT49CA1_64LQFP
designator U?
IR Remote MCU, Remote Type MCU with LCD, 2.0V-3.6V, 4MHz, 4Kx15 Program Memory, 160x8 Data Memory, 8 I/O, 1 x 8-bit Timer, 1 x 16-bit Timer, 64-pin LQFP; I/O: 8; DatasheetVersion: rev1.0, May-2008; PackageVersion: 25/05/2010; PackageReference: 64LQFP; PackageDescription: 64-Pin Low Profile Quad Flat Pack, 7 x 7 mm Body, 0.4 mm Pitch; Series: Remote Type MCU with LCD; Operating Voltage: 2.0V-3.6V; Program Memory: 4Kx15; Data Memory: 160x8; ComponentLink1Description: Manufacturer URL; ComponentLink1URL: http://www.holtek.com/; ComponentLink2Description: Datasheet; ComponentLink2URL: http://www.holtek.com.cn/pdf/uc/sim49xa1_v100.pdf; ComponentLink3Description: Package Specification; ComponentLink3URL: http://www.holtek.com/english/literature/package.pdf
footprint 64LQFP_N (Thin QFP, 64-Leads, Body 7x7mm, Pitch 0.4mm, IPC Medium Density)
footprint 64LQFP_L (Thin QFP, 64-Leads, Body 7x7mm, Pitch 0.4mm, IPC High Density)
footprint 64LQFP_M (Thin QFP, 64-Leads, Body 7x7mm, Pitch 0.4mm, IPC Low Density)
pins: 1 PA6 (io), 2 PA7 (io), 3 PB0/INT0 (in), 4 PB1/INT1 (in), 5 PB2/TMR0 (in), 6 PB3/TMR1 (in), 7 PB4 (in), 8 PB5 (in), 9 VSS (power), 10 PC0/REM (io), 11 PB6 (in), 12 PB7 (in), 13 VLCD (power), 14 V1, 15 V2, 16 C1, 17 C2, 18 COM0 (out), 19 COM1 (out), 20 COM2 (out), 21 COM3/SEG32 (out), 22 SEG31 (out), 23 SEG30 (out), 24 SEG29 (out), 25 SEG28 (out), 26 SEG27 (out), 27 SEG26 (out), 28 SEG25 (out), 29 SEG24 (out), 30 SEG23 (out), 31 SEG22 (out), 32 SEG21 (out), 33 SEG20 (out), 34 SEG19 (out), 35 SEG18 (out), 36 SEG17 (out), 37 SEG16 (out), 38 SEG15 (out), 39 SEG14 (out), 40 SEG13 (out), 41 SEG12 (out), 42 SEG11 (out), 43 SEG10 (out), 44 SEG9 (out), 45 SEG8 (out), 46 SEG7 (out), 47 SEG6 (out), 48 SEG5 (out), 49 SEG4 (out), 50 PD3/SEG3 (io), 51 PD2/SEG2 (io), 52 PD1/SEG1 (io), 53 PD0/SEG0 (io), 54 OSC4 (out), 55 OSC3 (in), 56 VDD (power), 57 OSC1 (in), 58 ~{RES} (in), 59 PA0 (io), 60 PA1 (io), 61 PA2 (io), 62 PA3 (io), 63 PA4 (io), 64 PA5 (io)

## HT49RA0_52QFP
designator U?
IR Remote MCU, Remote Type MCU with LCD, 2.0V-3.6V, 4MHz, 2Kx14 Program Memory, 96x8 Data Memory, 8 I/O, 1 x 8-bit Timer, 52-pin QFP; I/O: 8; DatasheetVersion: rev1.4, Dec-2008; PackageVersion: 25/05/2010; PackageReference: 52QFP; PackageDescription: 52-Pin Quad Flat Pack, 14 x 14 mm Body, 1 mm Pitch; Series: Remote Type MCU with LCD; Operating Voltage: 2.0V-3.6V; Program Memory: 2Kx14; Data Memory: 96x8; ComponentLink1Description: Manufacturer URL; ComponentLink1URL: http://www.holtek.com/; ComponentLink2Description: Datasheet; ComponentLink2URL: http://www.holtek.com.cn/pdf/uc/49xa0v140.pdf; ComponentLink3Description: Package Specification; ComponentLink3URL: http://www.holtek.com/english/literature/package.pdf
footprint 52QFP_N (QFP, 52-Leads, Body 14x14mm, Pitch 1mm, IPC Medium Density)
footprint 52QFP_L (QFP, 52-Leads, Body 14x14mm, Pitch 1mm, IPC High Density)
footprint 52QFP_M (QFP, 52-Leads, Body 14x14mm, Pitch 1mm, IPC Low Density)
pins: 1 PA5 (io), 2 PA6 (io), 3 PA7 (io), 4 PB0/INT0 (in), 5 PB1/INT1 (in), 6 PB2/TMR (in), 7 PB3 (in), 8 PB4 (in), 9 PB5 (in), 10 VSS (power), 11 PC0/REM (io), 12 PB6 (in), 13 PB7 (in), 14 VLCD (power), 15 V1 (in), 16 V2 (in), 17 C1 (in), 18 C2 (in), 19 COM0 (out), 20 COM1 (out), 21 COM2 (out), 22 COM3/SEG20 (out), 23 SEG19 (out), 24 SEG18 (out), 25 SEG17 (out), 26 SEG16 (out), 27 SEG15 (out), 28 SEG14 (out), 29 SEG13 (out), 30 SEG12 (out), 31 SEG11 (out), 32 SEG10 (out), 33 SEG9 (out), 34 SEG8 (out), 35 SEG7 (out), 36 SEG6 (out), 37 SEG5 (out), 38 SEG4 (out), 39 SEG3 (out), 40 SEG2 (out), 41 SEG1 (out), 42 SEG0 (out), 43 OSC4 (out), 44 OSC3 (in), 45 VDD (power), 46 OSC1 (in), 47 ~{RES} (in), 48 PA0 (io), 49 PA1 (io), 50 PA2 (io), 51 PA3 (io), 52 PA4 (io)

## HT49RA1_52QFP
designator U?
IR Remote MCU, Remote Type MCU with LCD, 2.0V-3.6V, 4MHz, 4Kx15 Program Memory, 160x8 Data Memory, 8 I/O, 1 x 8-bit Timer, 1 x 16-bit Timer, 52-pin QFP; I/O: 8; DatasheetVersion: rev1.0, May-2008; PackageVersion: 25/05/2010; PackageReference: 52QFP; PackageDescription: 52-Pin Quad Flat Pack, 14 x 14 mm Body, 1 mm Pitch; Series: Remote Type MCU with LCD; Operating Voltage: 2.0V-3.6V; Program Memory: 4Kx15; Data Memory: 160x8; ComponentLink1Description: Manufacturer URL; ComponentLink1URL: http://www.holtek.com/; ComponentLink2Description: Datasheet; ComponentLink2URL: http://www.holtek.com.cn/pdf/uc/sim49xa1_v100.pdf; ComponentLink3Description: Package Specification; ComponentLink3URL: http://www.holtek.com/english/literature/package.pdf
footprint 52QFP_N (QFP, 52-Leads, Body 14x14mm, Pitch 1mm, IPC Medium Density)
footprint 52QFP_L (QFP, 52-Leads, Body 14x14mm, Pitch 1mm, IPC High Density)
footprint 52QFP_M (QFP, 52-Leads, Body 14x14mm, Pitch 1mm, IPC Low Density)
pins: 1 PA5 (io), 2 PA6 (io), 3 PA7 (io), 4 PB0/INT0 (in), 5 PB1/INT1 (in), 6 PB2/TMR0 (in), 7 PB3/TMR1 (in), 8 PB4 (in), 9 PB5 (in), 10 VSS (power), 11 PC0/REM (io), 12 PB6 (in), 13 PB7 (in), 14 VLCD (power), 15 V1, 16 V2, 17 C1, 18 C2, 19 COM0 (out), 20 COM1 (out), 21 COM2 (out), 22 COM3/SEG32 (out), 23 SEG19 (out), 24 SEG18 (out), 25 SEG17 (out), 26 SEG16 (out), 27 SEG15 (out), 28 SEG14 (out), 29 SEG13 (out), 30 SEG12 (out), 31 SEG11 (out), 32 SEG10 (out), 33 SEG9 (out), 34 SEG8 (out), 35 SEG7 (out), 36 SEG6 (out), 37 SEG5 (out), 38 SEG4 (out), 39 PD3/SEG3 (io), 40 PD2/SEG2 (io), 41 PD1/SEG1 (io), 42 PD0/SEG0 (io), 43 OSC4 (out), 44 OSC3 (in), 45 VDD (power), 46 OSC1 (in), 47 ~{RES} (in), 48 PA0 (io), 49 PA1 (io), 50 PA2 (io), 51 PA3 (io), 52 PA4 (io)

## HT82D20A_28SSOP150
designator U?
RF Remote MCU, 27MHz Keyboard/Mouse RX MCU, 3.3V-5.5V, 12MHz, 2Kx14 Program Memory, 96x8 Data Memory, 8 I/O, 1 x 16-bit Timer, 28-pin SSOP; I/O: 8; DatasheetVersion: rev1.3, Jun-2010; PackageVersion: 25/05/2010; PackageReference: 28SSOP150; PackageDescription: 28-Pin Shrink Small Outline Package, 150mil Width, 0.64 mm Pitch; Series: 27MHz Keyboard/Mouse RX MCU; Operating Voltage: 3.3V-5.5V; Program Memory: 2Kx14; Data Memory: 96x8; ComponentLink1Description: Manufacturer URL; ComponentLink1URL: http://www.holtek.com/; ComponentLink2Description: Datasheet; ComponentLink2URL: http://www.holtek.com.cn/pdf/computer/82d20xv130.pdf; ComponentLink3Description: Package Specification; ComponentLink3URL: http://www.holtek.com/english/literature/package.pdf
footprint 28SSOP150_N (SOP, 28-Leads, Body 9.9x3.9mm, Pitch 0.635mm, IPC Medium Density)
footprint 28SSOP150_L (SOP, 28-Leads, Body 9.9x3.9mm, Pitch 0.635mm, IPC High Density)
footprint 28SSOP150_M (SOP, 28-Leads, Body 9.9x3.9mm, Pitch 0.635mm, IPC Low Density)
pins: 1 VSS (power), 2 V33O (out), 3 USBD+/CLK (io), 4 USBD-/DATA (io), 5 OSCI, 6 ~{RES} (in), 7 PA0 (io), 8 PA1/FSK_OUT (io), 9 VSS (power), 10 LF (in), 11 VREF1 (out), 12 VSS (power), 13 ANT_IN2 (in), 14 ANT_IN1 (in), 15 GND (power), 16 VREF2 (out), 17 VCC (power), 18 VREF3 (out), 19 XTAL_IN (in), 20 XTAL_OUT (out), 21 VSS (power), 22 PA4 (io), 23 PA3 (io), 24 PA5 (io), 25 PA2 (io), 26 PA6 (io), 27 PA7/TMR (io), 28 VDD (power)

## HT82D20R_28SSOP150
designator U?
RF Remote MCU, 27MHz Keyboard/Mouse RX MCU, 3.3V-5.5V, 12MHz, 2Kx14 Program Memory, 96x8 Data Memory, 8 I/O, 1 x 16-bit Timer, 28-pin SSOP; I/O: 8; DatasheetVersion: rev1.3, Jun-2010; PackageVersion: 25/05/2010; PackageReference: 28SSOP150; PackageDescription: 28-Pin Shrink Small Outline Package, 150mil Width, 0.64 mm Pitch; Series: 27MHz Keyboard/Mouse RX MCU; Operating Voltage: 3.3V-5.5V; Program Memory: 2Kx14; Data Memory: 96x8; ComponentLink1Description: Manufacturer URL; ComponentLink1URL: http://www.holtek.com/; ComponentLink2Description: Datasheet; ComponentLink2URL: http://www.holtek.com.cn/pdf/computer/82d20xv130.pdf; ComponentLink3Description: Package Specification; ComponentLink3URL: http://www.holtek.com/english/literature/package.pdf
footprint 28SSOP150_N (SOP, 28-Leads, Body 9.9x3.9mm, Pitch 0.635mm, IPC Medium Density)
footprint 28SSOP150_L (SOP, 28-Leads, Body 9.9x3.9mm, Pitch 0.635mm, IPC High Density)
footprint 28SSOP150_M (SOP, 28-Leads, Body 9.9x3.9mm, Pitch 0.635mm, IPC Low Density)
pins: 1 VSS (power), 2 V33O (out), 3 USBD+/CLK (io), 4 USBD-/DATA (io), 5 OSCI, 6 ~{RES} (in), 7 PA0 (io), 8 PA1/FSK_OUT (io), 9 VSS (power), 10 LF (in), 11 VREF1 (out), 12 VSS (power), 13 ANT_IN2 (in), 14 ANT_IN1 (in), 15 GND (power), 16 VREF2 (out), 17 VCC (power), 18 VREF3 (out), 19 XTAL_IN (in), 20 XTAL_OUT (out), 21 VSS (power), 22 PA4 (io), 23 PA3 (io), 24 PA5 (io), 25 PA2 (io), 26 PA6 (io), 27 PA7/TMR (io), 28 VDD (power)

## HT82D22A_48QFN
designator U?
RF Remote MCU, 27MHz Keyboard/Mouse RX MCU, 3.3V-5.5V, 12MHz, 4Kx15 Program Memory, 160x8 Data Memory, 10 I/O, 1 x 8-bit Timer, 1 x 16-bit Timer, 48-pin QFN; I/O: 10; DatasheetVersion: rev1.0, Nov-2009; PackageVersion: 25/05/2010; PackageReference: 48QFN; PackageDescription: 48-Pin Sawn Quad Flat No-Lead, 7 x 7 x 0.85 mm Body, 0.5 mm Pitch; Series: 27MHz Keyboard/Mouse RX MCU; Operating Voltage: 3.3V-5.5V; Program Memory: 4Kx15; Data Memory: 160x8; ComponentLink1Description: Manufacturer URL; ComponentLink1URL: http://www.holtek.com/; ComponentLink2Description: Datasheet; ComponentLink2URL: http://www.holtek.com.cn/pdf/computer/82d22xv100.pdf; ComponentLink3Description: Package Specification; ComponentLink3URL: http://www.holtek.com/english/literature/package.pdf
footprint 48QFN_N (QFN, 48-Leads, Body 7x7mm, Pitch 0.5mm, Thermal Pad 5.8x5.8mm, IPC Medium Density)
footprint 48QFN_L (QFN, 48-Leads, Body 7x7mm, Pitch 0.5mm, Thermal Pad 5.8x5.8mm, IPC High Density)
footprint 48QFN_M (QFN, 48-Leads, Body 7x7mm, Pitch 0.5mm, Thermal Pad 5.8x5.8mm, IPC Low Density)
pins: 1 VSS (power), 2 ANT_IN2A (in), 3 ANT_IN1A (in), 4 GNDA1A (power), 5 VCCA2A (power), 6 NC, 7 VCCA1A (power), 8 VDD-A (power), 9 XTAL_INA (in), 10 XTAL_OUTA (out), 11 VSS (power), 12 VDD (power), 13 V33O (power), 14 USBD+/CLK (io), 15 USBD-/DATA (io), 16 VSS (power), 17 LFB (in), 18 VREFB (power), 19 NC, 20 VSS (power), 21 ANT_IN2B (in), 22 ANT_IN1B (in), 23 GNDA1B (power), 24 VCCA2B (power), 25 NC, 26 VCCA1B (power), 27 VDD-B (power), 28 XTAL_INB (in), 29 XTAL_OUTB (out), 30 VSS, 31 PB0/FSK-B_OUT (io), 32 VSS (power), 33 ~{RES} (in), 34 OSCO, 35 OSCI, 36 PA7 (io), 37 PA6 (io), 38 PA5 (io), 39 PA4 (io), 40 PA3 (io), 41 PA2 (io), 42 PA1 (io), 43 PA0 (io), 44 PC0/FSK-A_OUT (io), 45 VSS (power), 46 LFA (in), 47 VREEA (power), 48 NC

## HT82D22R_48QFN
designator U?
RF Remote MCU, 27MHz Keyboard/Mouse RX MCU, 3.3V-5.5V, 12MHz, 4Kx15 Program Memory, 160x8 Data Memory, 10 I/O, 1 x 8-bit Timer, 1 x 16-bit Timer, 48-pin QFN; I/O: 10; DatasheetVersion: rev1.0, Nov-2009; PackageVersion: 25/05/2010; PackageReference: 48QFN; PackageDescription: 48-Pin Sawn Quad Flat No-Lead, 7 x 7 x 0.85 mm Body, 0.5 mm Pitch; Series: 27MHz Keyboard/Mouse RX MCU; Operating Voltage: 3.3V-5.5V; Program Memory: 4Kx15; Data Memory: 160x8; ComponentLink1Description: Manufacturer URL; ComponentLink1URL: http://www.holtek.com/; ComponentLink2Description: Datasheet; ComponentLink2URL: http://www.holtek.com.cn/pdf/computer/82d22xv100.pdf; ComponentLink3Description: Package Specification; ComponentLink3URL: http://www.holtek.com/english/literature/package.pdf
footprint 48QFN_N (QFN, 48-Leads, Body 7x7mm, Pitch 0.5mm, Thermal Pad 5.8x5.8mm, IPC Medium Density)
footprint 48QFN_L (QFN, 48-Leads, Body 7x7mm, Pitch 0.5mm, Thermal Pad 5.8x5.8mm, IPC High Density)
footprint 48QFN_M (QFN, 48-Leads, Body 7x7mm, Pitch 0.5mm, Thermal Pad 5.8x5.8mm, IPC Low Density)
pins: 1 VSS (power), 2 ANT_IN2A (in), 3 ANT_IN1A (in), 4 GNDA1A (power), 5 VCCA2A (power), 6 NC, 7 VCCA1A (power), 8 VDD-A (power), 9 XTAL_INA (in), 10 XTAL_OUTA (out), 11 VSS (power), 12 VDD (power), 13 V33O (power), 14 USBD+/CLK (io), 15 USBD-/DATA (io), 16 VSS (power), 17 LFB (in), 18 VREFB (power), 19 NC, 20 VSS (power), 21 ANT_IN2B (in), 22 ANT_IN1B (in), 23 GNDA1B (power), 24 VCCA2B (power), 25 NC, 26 VCCA1B (power), 27 VDD-B (power), 28 XTAL_INB (in), 29 XTAL_OUTB (out), 30 VSS, 31 PB0/FSK-B_OUT (io), 32 VSS (power), 33 ~{RES} (in), 34 OSCO, 35 OSCI, 36 PA7 (io), 37 PA6 (io), 38 PA5 (io), 39 PA4 (io), 40 PA3 (io), 41 PA2 (io), 42 PA1 (io), 43 PA0 (io), 44 PC0/FSK-A_OUT (io), 45 VSS (power), 46 LFA (in), 47 VREEA (power), 48 NC

## HT82K74E_48LQFP
designator U?
RF Remote MCU, 27MHz Keyboard/Mouse TX MCU, 2.0V-3.3V, 27MHz, 2Kx15 Program Memory, 96x8 SRAM, 36 I/O, 1 x 16-bit Timer, 48-pin LQFP; I/O: 36; DatasheetVersion: rev1.0, Dec-2009; PackageVersion: 25/05/2010; PackageReference: 48LQFP; PackageDescription: 48-Pin Low Profile Quad Flat Pack, 7 x 7 mm Body, 0.5 mm Pitch; Series: 27MHz Keyboard/Mouse TX MCU; Operating Voltage: 2.0V-3.3V; Program Memory: 2Kx15; Data Memory: 96x8 SRAM; ComponentLink1Description: Manufacturer URL; ComponentLink1URL: http://www.holtek.com/; ComponentLink2Description: Datasheet; ComponentLink2URL: http://www.holtek.com.cn/pdf/computer/82k74x_xev100.pdf; ComponentLink3Description: Package Specification; ComponentLink3URL: http://www.holtek.com/english/literature/package.pdf
footprint 48LQFP_N (Thin QFP, 48-Leads, Body 7x7mm, Pitch 0.5mm, IPC Medium Density)
footprint 48LQFP_L (Thin QFP, 48-Leads, Body 7x7mm, Pitch 0.5mm, IPC High Density)
footprint 48LQFP_M (Thin QFP, 48-Leads, Body 7x7mm, Pitch 0.5mm, IPC Low Density)
pins: 1 PA2/TMR (io), 2 PA1 (io), 3 PA0 (io), 4 VSS, 5 PC7 (io), 6 PC6 (io), 7 PC5 (io), 8 PC4 (io), 9 PC3 (io), 10 PC2 (io), 11 PC1 (io), 12 PC0 (io), 13 PD7 (io), 14 PD6 (io), 15 PD5 (io), 16 PD4 (io), 17 PD3/ZB (io), 18 PD2/ZA (io), 19 PD1/VB (io), 20 PD0/VA (io), 21 PE3 (io), 22 PE2 (io), 23 ~{RES} (in), 24 VSS (power), 25 PE1 (io), 26 PE0 (io), 27 VDD (power), 28 OSC2 (out), 29 OSC1 (in), 30 VSS (power), 31 RF_OUT (out), 32 VDD (power), 33 BAT_IN (in), 34 VSSLX (power), 35 LX (in), 36 PB7 (io), 37 PB6 (io), 38 PB5 (io), 39 PB4 (io), 40 PB3 (io), 41 PB2 (io), 42 PB1 (io), 43 PB0 (io), 44 PA7 (io), 45 PA6 (io), 46 PA5 (io), 47 PA4 (io), 48 PA3 (io)

## HT82K74E_48SSOP
designator U?
RF Remote MCU, 27MHz Keyboard/Mouse TX MCU, 2.0V-3.3V, 27MHz, 2Kx15 Program Memory, 96x8 SRAM, 36 I/O, 1 x 16-bit Timer, 48-pin SSOP; I/O: 36; DatasheetVersion: rev1.0, Dec-2009; PackageVersion: 25/05/2010; PackageReference: 48SSOP; PackageDescription: 48-Pin Shrink Small Outline Package, 300mil Width, 0.64 mm Pitch; Series: 27MHz Keyboard/Mouse TX MCU; Operating Voltage: 2.0V-3.3V; Program Memory: 2Kx15; Data Memory: 96x8 SRAM; Code_IPC: SOP635P1035-48; ComponentLink1Description: Manufacturer URL; ComponentLink1URL: http://www.holtek.com/; ComponentLink2Description: Datasheet; ComponentLink2URL: http://www.holtek.com.cn/pdf/computer/82k74x_xev100.pdf; ComponentLink3Description: Package Specification; ComponentLink3URL: http://www.holtek.com/english/literature/package.pdf
footprint 48SSOP_N (SOP, 48-Leads, Body 15.9x7.5mm, Pitch 0.635mm, IPC Medium Density)
footprint 48SSOP_L (SOP, 48-Leads, Body 15.9x7.5mm, Pitch 0.635mm, IPC High Density)
footprint 48SSOP_M (SOP, 48-Leads, Body 15.9x7.5mm, Pitch 0.635mm, IPC Low Density)
pins: 1 PB0 (io), 2 PA7 (io), 3 PA6 (io), 4 PA5 (io), 5 PA4 (io), 6 PA3 (io), 7 PA2/TMR (io), 8 PA1 (io), 9 PA0 (io), 10 VSS (power), 11 PC7 (io), 12 PC6 (io), 13 PC5 (io), 14 PC4 (io), 15 PC3 (io), 16 PC2 (io), 17 PC1 (io), 18 PC0 (io), 19 PD7 (io), 20 PD6 (io), 21 PD5 (io), 22 PD4 (io), 23 PD3/ZB (io), 24 PD2/ZA (io), 25 PD1/VB (io), 26 PD0/VA (io), 27 PE3 (io), 28 PE2 (io), 29 ~{RES} (in), 30 VSS (power), 31 PE1 (io), 32 PE0 (io), 33 VDD (power), 34 OSC2 (out), 35 OSC1 (in), 36 VSS (power), 37 RF_OUT (out), 38 VDD (power), 39 BAT_IN (in), 40 VSSLX (power), 41 LX (in), 42 PB7 (io), 43 PB6 (io), 44 PB5 (io), 45 PB4 (io), 46 PB3 (io), 47 PB2 (io), 48 PB1 (io)

## HT82K74EE_48LQFP
designator U?
RF Remote MCU, 27MHz Keyboard/Mouse TX MCU, 2.0V-3.3V, 27MHz, 2Kx15 Program Memory, 96x8 SRAM, 128x8 EEPROM, 36 I/O, 1 x 16-bit Timer, 48-pin LQFP; I/O: 36; DatasheetVersion: rev1.0, Dec-2009; PackageVersion: 25/05/2010; PackageReference: 48LQFP; PackageDescription: 48-Pin Low Profile Quad Flat Pack, 7 x 7 mm Body, 0.5 mm Pitch; Series: 27MHz Keyboard/Mouse TX MCU; Operating Voltage: 2.0V-3.3V; Program Memory: 2Kx15; Data Memory: 96x8 SRAM, 128x8 EEPROM; ComponentLink1Description: Manufacturer URL; ComponentLink1URL: http://www.holtek.com/; ComponentLink2Description: Datasheet; ComponentLink2URL: http://www.holtek.com.cn/pdf/computer/82k74x_xev100.pdf; ComponentLink3Description: Package Specification; ComponentLink3URL: http://www.holtek.com/english/literature/package.pdf
footprint 48LQFP_N (Thin QFP, 48-Leads, Body 7x7mm, Pitch 0.5mm, IPC Medium Density)
footprint 48LQFP_L (Thin QFP, 48-Leads, Body 7x7mm, Pitch 0.5mm, IPC High Density)
footprint 48LQFP_M (Thin QFP, 48-Leads, Body 7x7mm, Pitch 0.5mm, IPC Low Density)
pins: 1 PA2/TMR (io), 2 PA1 (io), 3 PA0 (io), 4 VSS (power), 5 PC7 (io), 6 PC6 (io), 7 PC5 (io), 8 PC4 (io), 9 PC3 (io), 10 PC2 (io), 11 PC1 (io), 12 PC0 (io), 13 PD7 (io), 14 PD6 (io), 15 PD5 (io), 16 PD4 (io), 17 PD3/ZB (io), 18 PD2/ZA (io), 19 PD1/VB (io), 20 PD0/VA (io), 21 PE3 (io), 22 PE2 (io), 23 ~{RES} (in), 24 VSS (power), 25 PE1/SCL (io), 26 PE0/SDA (io), 27 VDD (power), 28 OSC2 (out), 29 OSC1 (in), 30 VSS (power), 31 RF_OUT (out), 32 VDD (power), 33 BAT_IN (in), 34 VSSLX (power), 35 LX (in), 36 PB7 (io), 37 PB6 (io), 38 PB5 (io), 39 PB4 (io), 40 PB3 (io), 41 PB2 (io), 42 PB1 (io), 43 PB0 (io), 44 PA7 (io), 45 PA6 (io), 46 PA5 (io), 47 PA4 (io), 48 PA3 (io)

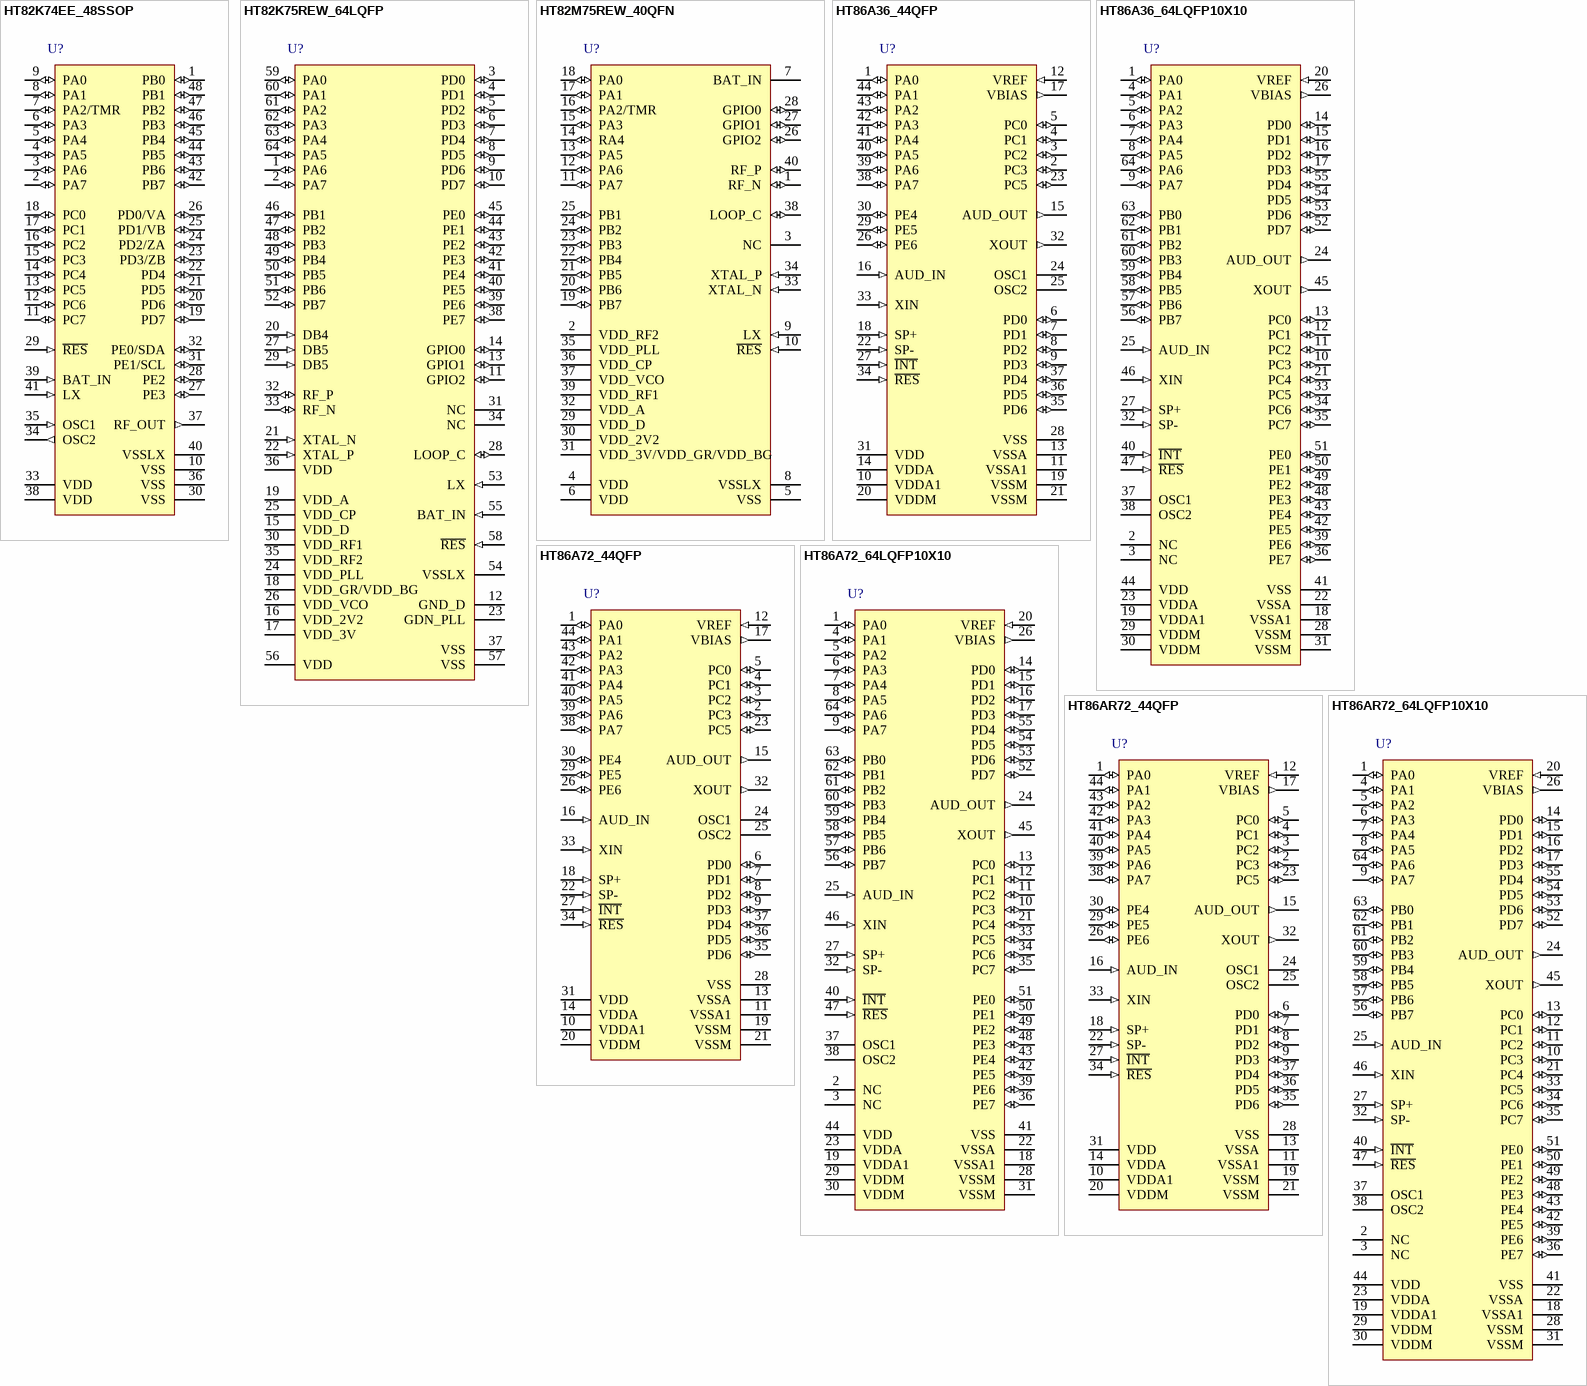
[diagram p12: symbols HT82K74EE_48SSOP to HT86AR72_64LQFP10X10]

## HT82K74EE_48SSOP
designator U?
RF Remote MCU, 27MHz Keyboard/Mouse TX MCU, 2.0V-3.3V, 27MHz, 2Kx15 Program Memory, 96x8 SRAM, 128x8 EEPROM, 36 I/O, 1 x 16-bit Timer, 48-pin SSOP; I/O: 36; DatasheetVersion: rev1.0, Dec-2009; PackageVersion: 25/05/2010; PackageReference: 48SSOP; PackageDescription: 48-Pin Shrink Small Outline Package, 300mil Width, 0.64 mm Pitch; Series: 27MHz Keyboard/Mouse TX MCU; Operating Voltage: 2.0V-3.3V; Program Memory: 2Kx15; Data Memory: 96x8 SRAM, 128x8 EEPROM; Code_IPC: SOP635P1035-48; ComponentLink1Description: Manufacturer URL; ComponentLink1URL: http://www.holtek.com/; ComponentLink2Description: Datasheet; ComponentLink2URL: http://www.holtek.com.cn/pdf/computer/82k74x_xev100.pdf; ComponentLink3Description: Package Specification; ComponentLink3URL: http://www.holtek.com/english/literature/package.pdf
footprint 48SSOP_N (SOP, 48-Leads, Body 15.9x7.5mm, Pitch 0.635mm, IPC Medium Density)
footprint 48SSOP_L (SOP, 48-Leads, Body 15.9x7.5mm, Pitch 0.635mm, IPC High Density)
footprint 48SSOP_M (SOP, 48-Leads, Body 15.9x7.5mm, Pitch 0.635mm, IPC Low Density)
pins: 1 PB0 (io), 2 PA7 (io), 3 PA6 (io), 4 PA5 (io), 5 PA4 (io), 6 PA3 (io), 7 PA2/TMR (io), 8 PA1 (io), 9 PA0 (io), 10 VSS (power), 11 PC7 (io), 12 PC6 (io), 13 PC5 (io), 14 PC4 (io), 15 PC3 (io), 16 PC2 (io), 17 PC1 (io), 18 PC0 (io), 19 PD7 (io), 20 PD6 (io), 21 PD5 (io), 22 PD4 (io), 23 PD3/ZB (io), 24 PD2/ZA (io), 25 PD1/VB (io), 26 PD0/VA (io), 27 PE3 (io), 28 PE2 (io), 29 ~{RES} (in), 30 VSS (power), 31 PE1/SCL (io), 32 PE0/SDA (io), 33 VDD (power), 34 OSC2 (out), 35 OSC1 (in), 36 VSS (power), 37 RF_OUT (out), 38 VDD (power), 39 BAT_IN (in), 40 VSSLX (power), 41 LX (in), 42 PB7 (io), 43 PB6 (io), 44 PB5 (io), 45 PB4 (io), 46 PB3 (io), 47 PB2 (io), 48 PB1 (io)

## HT82K75REW_64LQFP
designator U?
RF Remote MCU, 2.4GHz TX MCU, 2.0V-3.6V, 6MHz MCU, 32MHz RF, 4Kx15 Program Memory, 160x8 SRAM, 128x8 EEPROM, 31 I/O, 1 x 16-bit Timer, 64-pin LQFP; I/O: 31; DatasheetVersion: rev1.1, Aug-2010; PackageVersion: 25/05/2010; PackageReference: 64LQFP; PackageDescription: 64-Pin Low Profile Quad Flat Pack, 7 x 7 mm Body, 0.4 mm Pitch; Series: 2.4GHz TX MCU; Operating Voltage: 2.0V-3.6V; Program Memory: 4Kx15; Data Memory: 160x8 SRAM, 128x8 EEPROM; ComponentLink1Description: Manufacturer URL; ComponentLink1URL: http://www.holtek.com/; ComponentLink2Description: Datasheet; ComponentLink2URL: http://www.holtek.com.cn/pdf/computer/82m_k75rewv110.pdf; ComponentLink3Description: Package Specification; ComponentLink3URL: http://www.holtek.com/english/literature/package.pdf
footprint 64LQFP_N (Thin QFP, 64-Leads, Body 7x7mm, Pitch 0.4mm, IPC Medium Density)
footprint 64LQFP_L (Thin QFP, 64-Leads, Body 7x7mm, Pitch 0.4mm, IPC High Density)
footprint 64LQFP_M (Thin QFP, 64-Leads, Body 7x7mm, Pitch 0.4mm, IPC Low Density)
pins: 1 PA6 (io), 2 PA7 (io), 3 PD0 (io), 4 PD1 (io), 5 PD2 (io), 6 PD3 (io), 7 PD4 (io), 8 PD5 (io), 9 PD6 (io), 10 PD7 (io), 11 GPIO2 (io), 12 GND_D (power), 13 GPIO1 (io), 14 GPIO0 (io), 15 VDD_D (power), 16 VDD_2V2 (power), 17 VDD_3V (power), 18 VDD_GR/VDD_BG (power), 19 VDD_A (power), 20 DB4 (in), 21 XTAL_N (in), 22 XTAL_P (in), 23 GDN_PLL (power), 24 VDD_PLL (power), 25 VDD_CP (power), 26 VDD_VCO (power), 27 DB5 (in), 28 LOOP_C (io), 29 DB5 (in), 30 VDD_RF1 (power), 31 NC, 32 RF_P (io), 33 RF_N (io), 34 NC, 35 VDD_RF2 (power), 36 VDD (power), 37 VSS (power), 38 PE7 (io), 39 PE6 (io), 40 PE5 (io), 41 PE4 (io), 42 PE3 (io), 43 PE2 (io), 44 PE1 (io), 45 PE0 (io), 46 PB1 (io), 47 PB2 (io), 48 PB3 (io), 49 PB4 (io), 50 PB5 (io), 51 PB6 (io), 52 PB7 (io), 53 LX (in), 54 VSSLX (power), 55 BAT_IN (in), 56 VDD (power), 57 VSS (power), 58 ~{RES} (in), 59 PA0 (io), 60 PA1 (io), 61 PA2 (io), 62 PA3 (io), 63 PA4 (io), 64 PA5 (io)

## HT82M75REW_40QFN
designator U?
RF Remote MCU, 2.4GHz TX MCU, 2.0V-3.6V, 6MHz MCU, 32MHz RF, 4Kx15 Program Memory, 128x8 SRAM, 128x8 EEPROM, 15 I/O, 1 x 16-bit Timer, 40-pin QFN; I/O: 15; DatasheetVersion: rev1.1, Aug-2010; PackageVersion: 25/05/2010; PackageReference: 40QFN; PackageDescription: 40-Pin Sawn Quad Flat No-Lead, 6 x 6 x 0.75 mm Body, 0.5 mm Pitch; Series: 2.4GHz TX MCU; Operating Voltage: 2.0V-3.6V; Program Memory: 4Kx15; Data Memory: 128x8 SRAM, 128x8 EEPROM; ComponentLink1Description: Manufacturer URL; ComponentLink1URL: http://www.holtek.com/; ComponentLink2Description: Datasheet; ComponentLink2URL: http://www.holtek.com.cn/pdf/computer/82m_k75rewv110.pdf; ComponentLink3Description: Package Specification; ComponentLink3URL: http://www.holtek.com/english/literature/package.pdf
footprint 40QFN_N (QFN, 40-Leads, Body 6x6mm, Pitch 0.5mm, Thermal Pad 4.6x4.6mm, IPC Medium Density)
footprint 40QFN_L (QFN, 40-Leads, Body 6x6mm, Pitch 0.5mm, Thermal Pad 4.6x4.6mm, IPC High Density)
footprint 40QFN_M (QFN, 40-Leads, Body 6x6mm, Pitch 0.5mm, Thermal Pad 4.6x4.6mm, IPC Low Density)
pins: 1 RF_N (io), 2 VDD_RF2 (power), 3 NC, 4 VDD (power), 5 VSS (power), 6 VDD (power), 7 BAT_IN (power), 8 VSSLX (power), 9 LX (in), 10 ~{RES} (in), 11 PA7 (io), 12 PA6 (io), 13 PA5 (io), 14 RA4 (io), 15 PA3 (io), 16 PA2/TMR (io), 17 PA1 (io), 18 PA0 (io), 19 PB7 (io), 20 PB6 (io), 21 PB5 (io), 22 PB4 (io), 23 PB3 (io), 24 PB2 (io), 25 PB1 (io), 26 GPIO2 (io), 27 GPIO1 (io), 28 GPIO0 (io), 29 VDD_D (power), 30 VDD_2V2 (power), 31 VDD_3V/VDD_GR/VDD_BG (power), 32 VDD_A (power), 33 XTAL_N (in), 34 XTAL_P (in), 35 VDD_PLL (power), 36 VDD_CP (power), 37 VDD_VCO (power), 38 LOOP_C (io), 39 VDD_RF1 (power), 40 RF_P (io)